# Altium footprint library PCB - BATTERY HOLDER - KEYSTONE 1043.PCBLIB: 1 footprints
Each footprint in its own frame and in the unit in brackets; x right, y up, seen from the top. Pads: shape width x height; smd on the part's side, far side on the other; paste and mask are expansions set on the pad; w line width, h text height; cw(c..) or ccw(c..) is an arc to the next point about the centre after c.
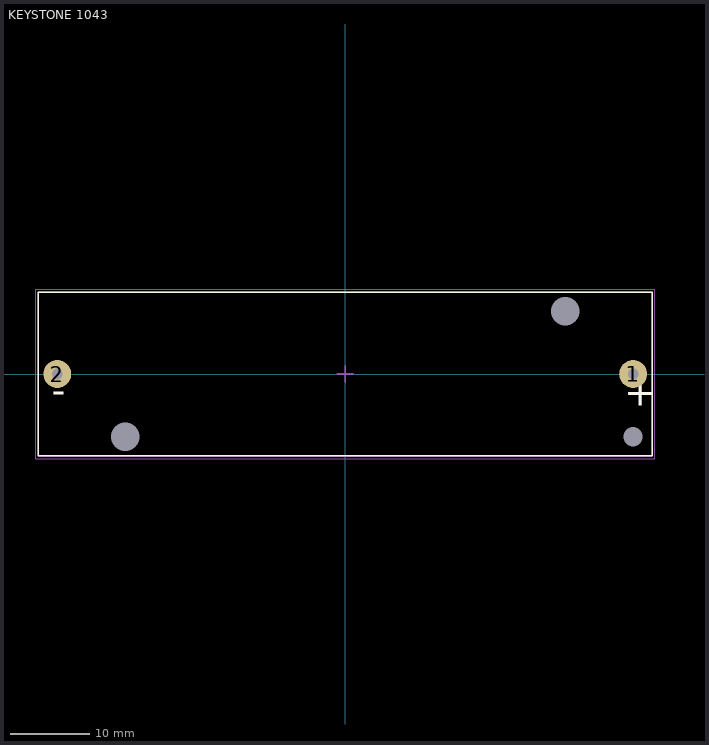
[diagram p0: the footprint, top view; thin cyan lines are the x and y axes]

## KEYSTONE 1043 [mm]
height 16
pads (5):
  round 3.5 hole 1.32 unplated: 1(36.11,0) 2(-36.11,0)
  rect 0x0 hole 3.55 unplated: M(-27.6,-7.87) M(27.6,7.87)
  rect 0x0 hole 2.39 unplated: M(36.11,-7.87)
Top Overlay:
  lines w0.2: -38.5,-10.25 -38.5,10.25 38.5,10.25 38.5,-10.25 -38.5,-10.25
  text "-" at -36.8,-4.85 h6
  text "+" at 35,-5.15 h6
Mechanical 13:
  lines w0.1: -38.525,-10.325 38.525,-10.325 38.525,10.325 -38.525,10.325 -38.525,-10.325
Mechanical 15:
  lines w0.05: -38.8,-10.6 38.8,-10.6 38.8,10.6 -38.8,10.6 -38.8,-10.6
  lines w0.2: -1,0 1,0 ; 0,-1 0,1
3D body "Keystone - PN1043.step": height 14.86, standoff -3.56, extent -38.527,-10.325 38.527,10.325